# Altium schematic symbol library mec-pushbutton.SchLib: 1 symbol
Pins are listed as number, name and electrical type; pins without a type are passive.

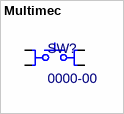
[diagram p0: symbol Multimec]

## Multimec
designator SW?, comment 0000-00
Tact Switch; PN: 0000-00; Value: *; Package: *; ExtraInfo: *
footprint 3CSH9 (SMD Tact Switch 10.1X10.1mm, Gull Wing Termination)
footprint TL1105G (Tact Switch 6mm x 6mm)
footprint TL1105C (Tact Switch 6mm x 6mm x 8mm)
pins: 1, 2, 3, 4